# EAGLE library part FT232R (library telemetry-board)
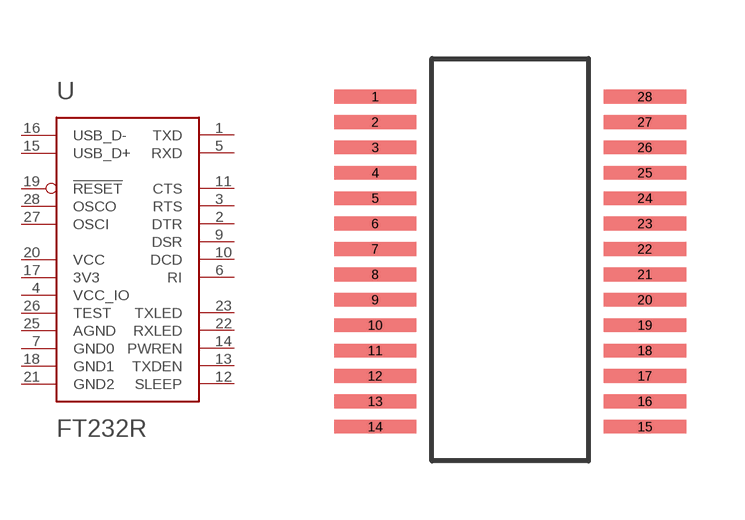
[diagram p6: symbol with the pads of SSOP-28; footprint SSOP-28]

Designator prefix -

## FT232R  [SSOP-28]
1  TXD  pwr
2  DTR  pwr
3  RTS  pwr
4  VCC_IO  pwr
5  RXD  pwr
6  RI  pwr
7  GND0  pwr
9  DSR  pwr
10  DCD  pwr
11  CTS  pwr
12  SLEEP  pwr
13  TXDEN  pwr
14  PWREN  pwr
15  USB_D+
16  USB_D-
17  3V3  pwr
18  GND1  pwr
19  !RESET  pwr
20  VCC  pwr
21  GND2  pwr
22  RXLED  pwr
23  TXLED  pwr
25  AGND  pwr
26  TEST  pwr
27  OSCI  pwr
28  OSCO  pwr

## Footprint SSOP-28 (pad centres in mm)
smd 2.1 x 0.35: 1 -3.45,4.225; 2 -3.45,3.575; 3 -3.45,2.925; 4 -3.45,2.275; 5 -3.45,1.625; 6 -3.45,0.975; 7 -3.45,0.325; 8 -3.45,-0.325; 9 -3.45,-0.975; 10 -3.45,-1.625; 11 -3.45,-2.275; 12 -3.45,-2.925; 13 -3.45,-3.575; 14 -3.45,-4.225; 15 3.45,-4.225; 16 3.45,-3.575; 17 3.45,-2.925; 18 3.45,-2.275; 19 3.45,-1.625; 20 3.45,-0.975; 21 3.45,-0.325; 22 3.45,0.325; 23 3.45,0.975; 24 3.45,1.625; 25 3.45,2.275; 26 3.45,2.925; 27 3.45,3.575; 28 3.45,4.225